# EAGLE library part AVR-ATTINY2313 (library tidyeagle)
Atmel 8-bit Microcontroller in DIP20 and SO20 packages. Datasheet: Summary <http://www.atmel.com/dyn/resources/prod_documents/doc2543S.pdf>, Full <http://www.atmel.com/dyn/resources/prod_documents/doc2543.pdf> Application Notes: AVR042 - Hardware Design Considerations <http://atmel.com/dyn/resources/prod_documents/doc2521.pdf>
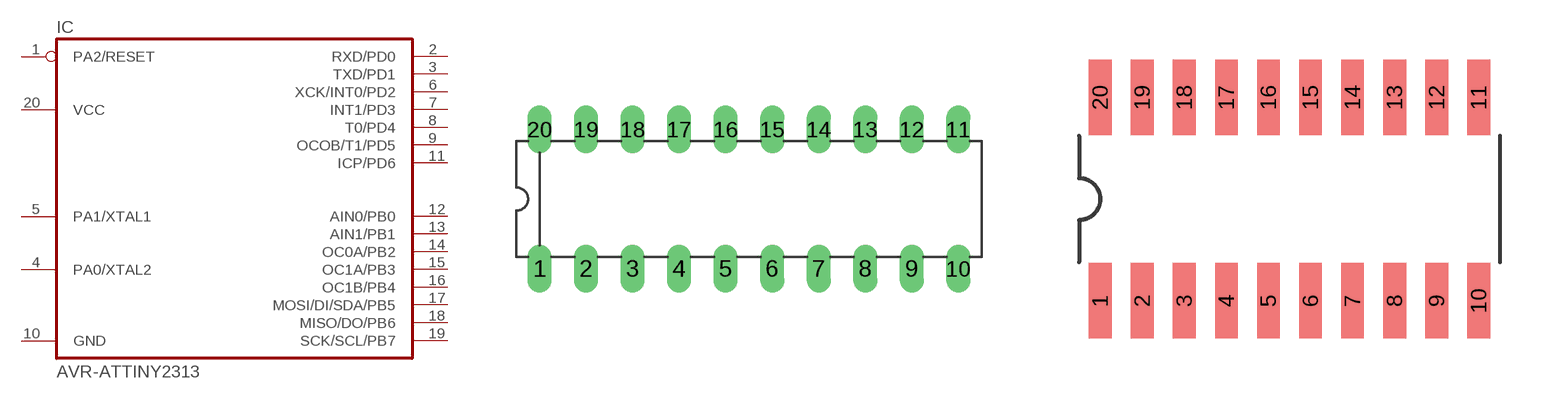
[diagram p15: symbol with the pads of DIL20-3; footprints DIL20-3, SO20]

Designator prefix IC

## AVR-ATTINY2313-DIP20  [DIL20-3]
1  PA2/RESET
2  RXD/PD0
3  TXD/PD1
4  PA0/XTAL2
5  PA1/XTAL1
6  XCK/INT0/PD2
7  INT1/PD3
8  T0/PD4
9  OCOB/T1/PD5
10  GND  pwr
11  ICP/PD6
12  AIN0/PB0
13  AIN1/PB1
14  OC0A/PB2
15  OC1A/PB3
16  OC1B/PB4
17  MOSI/DI/SDA/PB5
18  MISO/DO/PB6
19  SCK/SCL/PB7
20  VCC  pwr

## AVR-ATTINY2313-SO20  [SO20]
Pads as for DIL20-3

## Footprint DIL20-3 (pad centres in mm)
drill 0.813 long: 1 -11.43,-3.81; 2 -8.89,-3.81; 3 -6.35,-3.81; 4 -3.81,-3.81; 5 -1.27,-3.81; 6 1.27,-3.81; 7 3.81,-3.81; 8 6.35,-3.81; 9 8.89,-3.81; 10 11.43,-3.81; 11 11.43,3.81; 12 8.89,3.81; 13 6.35,3.81; 14 3.81,3.81; 15 1.27,3.81; 16 -1.27,3.81; 17 -3.81,3.81; 18 -6.35,3.81; 19 -8.89,3.81; 20 -11.43,3.81

## Footprint SO20 (pad centres in mm)
smd 0.686 x 2.286: 1 -5.08,-3.073; 2 -3.81,-3.073; 3 -2.54,-3.073; 4 -1.27,-3.073; 5 0,-3.073; 6 1.27,-3.073; 7 2.54,-3.073; 8 3.81,-3.073; 9 5.08,-3.073; 10 6.35,-3.073; 11 6.35,3.073; 12 5.08,3.073; 13 3.81,3.073; 14 2.54,3.073; 15 1.27,3.073; 16 0,3.073; 17 -1.27,3.073; 18 -2.54,3.073; 19 -3.81,3.073; 20 -5.08,3.073